# Altium footprint library Copy of M50-3001045.PcbLib: 1 footprints
Each footprint in its own frame and in the unit in brackets; x right, y up, seen from the top. Pads: shape width x height; smd on the part's side, far side on the other; paste and mask are expansions set on the pad; w line width, h text height; cw(c..) or ccw(c..) is an arc to the next point about the centre after c.
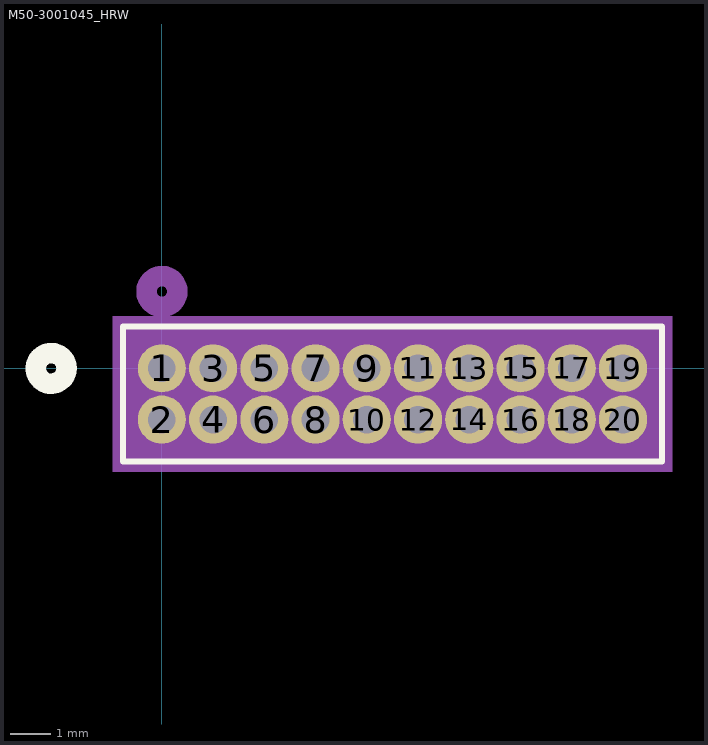
[diagram p0: the footprint, top view; thin cyan lines are the x and y axes]

## M50-3001045_HRW [mil]
pads (20):
  round 47 hole 27 mask+0: 1(0,0) 2(0,-50) 3(50,0) 4(50,-50) 5(100,0) 6(100,-50) 7(150,0) 8(150,-50) 9(200,0) 10(200,-50) 11(250,0) 12(250,-50) 13(300,0) 14(300,-50) 15(350,0) 16(350,-50) 17(400,0) 18(400,-50) 19(450,0) 20(450,-50)
Top Overlay:
  circle w20: c-108,0 r15
  lines w6: -38,-91 488,-91 488,41 -38,41 -38,-91
Bottom Overlay:
  circle w20: c-108,0 r15
Mechanical 5:
  region: -48,51 498,51 498,-101 -48,-101
Mechanical 13:
  circle w20: c0,75 r15
  lines w1: -33,-86 483,-86 483,36 -33,36 -33,-86
Mechanical 15:
  region: 493,46 -43,46 -43,-96 493,-96
  lines w6: -43,-96 -43,46 493,46 493,-96 -43,-96
3D body: height 10, standoff 0, extent 0,0 10,10